# Altium schematic symbol library MCP3002-ISN.SchLib: 1 symbol
Pins are listed as number, name and electrical type; pins without a type are passive.

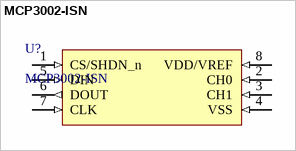
[diagram p0: symbol MCP3002-ISN]

## MCP3002-ISN
designator U?
Analog to Digital Converters - ADC 10-bit SPI Dual Chl IND TEMP, SOIC8; Manufacturer: Microchip Technology; Min Supply Voltage: 2.7V; Max Supply Voltage: 5.5V; PN: MCP3002-ISN; Stock 1: 2780; Case/Package: SOIC-8; Number of Pins: 8; Min Operating Temperature: -40°C; Max Operating Temperature: 85°C; ComponentLink1URL: https://www.mouser.ca/datasheet/2/268/21294E-2402455.pdf; ComponentLink1Description: Datasheet; Footprint: SOIC-8; Supplier 1: Digi-Key; Supplier Part Number 1: MCP3002-I/SN-ND; Protocol: SPI
footprint SOIC-8
pins: 1 CS/SHDN_n (in), 2 CH0 (in), 3 CH1 (in), 4 VSS (in), 5 DIN (in), 6 DOUT (out), 7 CLK (in), 8 VDD/VREF (in)